# EAGLE library part LAN9513-JZX (library Distributed_Camera_Parts)
USB to Ethernet. Datasheet link: https://ww1.microchip.com/downloads/en/DeviceDoc/00002305A.pdf
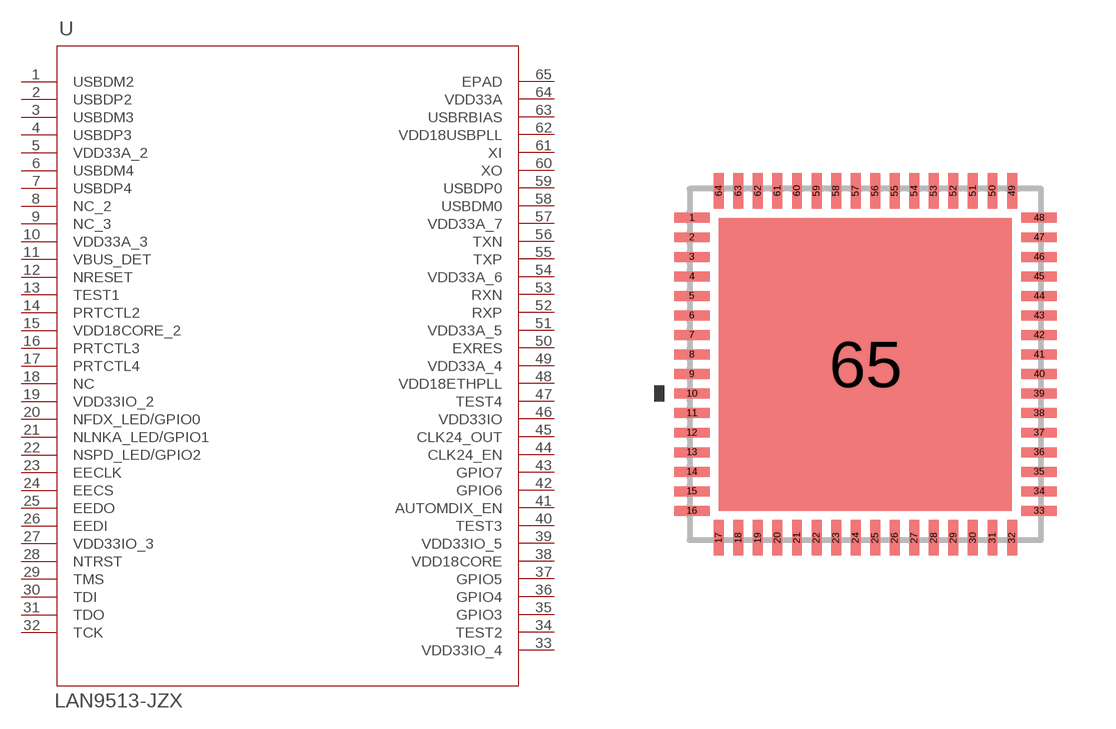
[diagram p2: symbol with the pads of QFN64_9X9MC_MCH-M; footprint QFN64_9X9MC_MCH-M]

Designator prefix U

## LAN9513-JZXQFN64_9X9MC_MCH-M (BUILT_BY: EMA_Jessica; COPYRIGHT: Copyright (C) 2018 Accelerated Designs. All rights reserved; DKPN: LAN9513-JZX-ND; MANUFACTURER_PART_NUMBER: LAN9513-JZX; SOURCELIBRARY: Microchip_2019-08-23_20; VENDOR: Microchip)  [QFN64_9X9MC_MCH-M]
1  USBDM2
2  USBDP2
3  USBDM3
4  USBDP3
5  VDD33A_2  pwr
6  USBDM4
7  USBDP4
8  NC_2  nc
9  NC_3  nc
10  VDD33A_3  pwr
11  VBUS_DET  in
12  NRESET  in
13  TEST1  pas
14  PRTCTL2
15  VDD18CORE_2  pwr
16  PRTCTL3
17  PRTCTL4
18  NC  nc
19  VDD33IO_2  pwr
20  NFDX_LED/GPIO0
21  NLNKA_LED/GPIO1
22  NSPD_LED/GPIO2
23  EECLK  out
24  EECS  out
25  EEDO  out
26  EEDI  in
27  VDD33IO_3  pwr
28  NTRST  in
29  TMS  in
30  TDI  in
31  TDO  out
32  TCK  in
33  VDD33IO_4  pwr
34  TEST2  pas
35  GPIO3
36  GPIO4
37  GPIO5
38  VDD18CORE  pwr
39  VDD33IO_5  pwr
40  TEST3  pas
41  AUTOMDIX_EN  in
42  GPIO6
43  GPIO7
44  CLK24_EN  in
45  CLK24_OUT  out
46  VDD33IO  pwr
47  TEST4  pas
48  VDD18ETHPLL  pwr
49  VDD33A_4  pwr
50  EXRES  in
51  VDD33A_5  pwr
52  RXP
53  RXN
54  VDD33A_6  pwr
55  TXP
56  TXN
57  VDD33A_7  pwr
58  USBDM0
59  USBDP0
60  XO  out
61  XI  in
62  VDD18USBPLL  pwr
63  USBRBIAS
64  VDD33A  pwr
65  EPAD  pas

## Footprint QFN64_9X9MC_MCH-M (pad centres in mm)
Datasheet link: https://ww1.microchip.com/downloads/en/DeviceDoc/00002305A.pdf
smd 0.908 x 0.255: 1 -4.442,3.75; 2 -4.442,3.25; 3 -4.442,2.75; 4 -4.442,2.25; 5 -4.442,1.75; 6 -4.442,1.25; 7 -4.442,0.75; 8 -4.442,0.25; 9 -4.442,-0.25; 10 -4.442,-0.75; 11 -4.442,-1.25; 12 -4.442,-1.75; 13 -4.442,-2.25; 14 -4.442,-2.75; 15 -4.442,-3.25; 16 -4.442,-3.75; 33 4.442,-3.75; 34 4.442,-3.25; 35 4.442,-2.75; 36 4.442,-2.25; 37 4.442,-1.75; 38 4.442,-1.25; 39 4.442,-0.75; 40 4.442,-0.25; 41 4.442,0.25; 42 4.442,0.75; 43 4.442,1.25; 44 4.442,1.75; 45 4.442,2.25; 46 4.442,2.75; 47 4.442,3.25; 48 4.442,3.75
smd 0.255 x 0.908: 17 -3.75,-4.442; 18 -3.25,-4.442; 19 -2.75,-4.442; 20 -2.25,-4.442; 21 -1.75,-4.442; 22 -1.25,-4.442; 23 -0.75,-4.442; 24 -0.25,-4.442; 25 0.25,-4.442; 26 0.75,-4.442; 27 1.25,-4.442; 28 1.75,-4.442; 29 2.25,-4.442; 30 2.75,-4.442; 31 3.25,-4.442; 32 3.75,-4.442; 49 3.75,4.442; 50 3.25,4.442; 51 2.75,4.442; 52 2.25,4.442; 53 1.75,4.442; 54 1.25,4.442; 55 0.75,4.442; 56 0.25,4.442; 57 -0.25,4.442; 58 -0.75,4.442; 59 -1.25,4.442; 60 -1.75,4.442; 61 -2.25,4.442; 62 -2.75,4.442; 63 -3.25,4.442; 64 -3.75,4.442
smd 7.493 x 7.493: 65 0,0